# Altium schematic symbol library lib.SchLib: 11 symbols
Pins are listed as number, name and electrical type; pins without a type are passive.

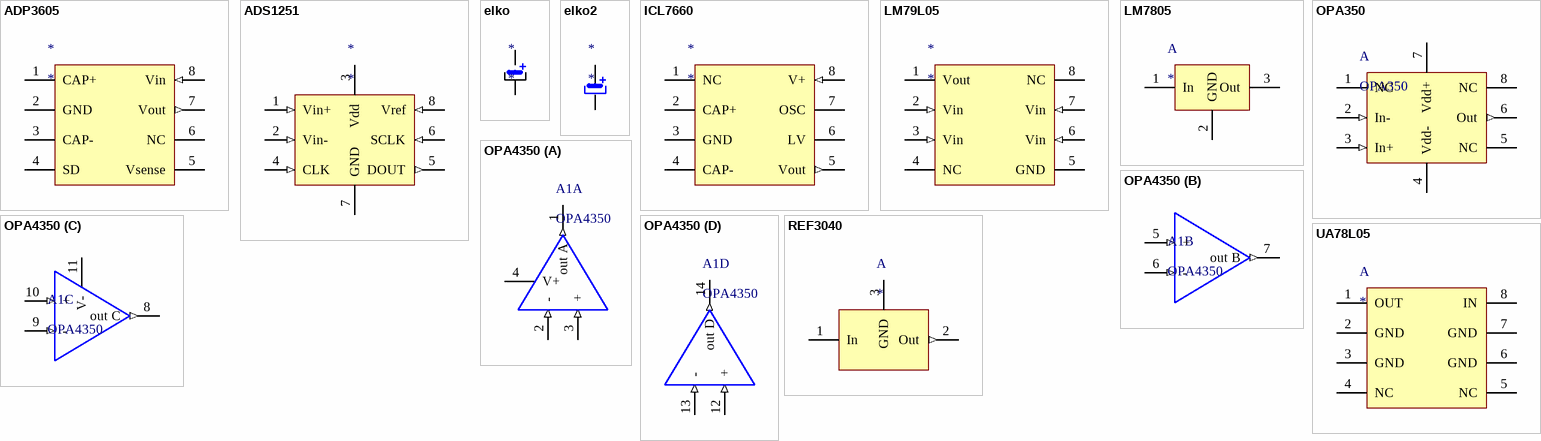
[diagram p0: symbols ADP3605 to UA78L05]

## ADP3605
designator *
pins: 1 CAP+, 2 GND (power), 3 CAP-, 4 SD, 5 Vsense, 6 NC, 7 Vout (out), 8 Vin (in)

## ADS1251
designator *
pins: 1 Vin+ (in), 2 Vin- (in), 3 Vdd (power), 4 CLK (in), 5 DOUT (out), 6 SCLK (in), 7 GND (power), 8 Vref (in)

## elko
designator *
pins: 1, 2

## elko2
designator *
pins: 1, 2

## ICL7660
designator *
pins: 1 NC, 2 CAP+, 3 GND (power), 4 CAP-, 5 Vout (out), 6 LV, 7 OSC, 8 V+ (in)

## LM79L05
designator *
pins: 1 Vout (power), 2 Vin (in), 3 Vin (in), 4 NC, 5 GND (power), 6 Vin (in), 7 Vin (in), 8 NC

## LM7805
designator A
pins: 1 In (power), 2 GND (power), 3 Out (power)

## OPA350
designator A
pins: 1 NC, 2 In- (in), 3 In+ (in), 4 Vdd- (power), 5 NC, 6 Out (out), 7 Vdd+ (power), 8 NC

## OPA4350
designator A1
part A pins: 1 out A (out), 2 - (in), 3 + (in), 4 V+ (power)
part B pins: 5 + (in), 6 - (in), 7 out B (out)
part C pins: 8 out C (out), 9 - (in), 10 + (in), 11 V- (power)
part D pins: 12 + (in), 13 - (in), 14 out D (out)

## REF3040
designator A
pins: 1 In (power), 2 Out (out), 3 GND

## UA78L05
designator A
pins: 1 OUT (power), 2 GND (power), 3 GND (power), 4 NC, 5 NC, 6 GND (power), 7 GND (power), 8 IN (power)